# Altium integrated library WE-LHMI (rev22a).IntLib: 164 symbols (part 4 of 4)
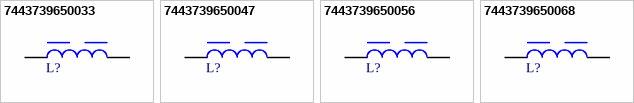
[diagram p7: symbols 7443739650033 to 7443739650068]

## 7443739650068
designator L?, comment 0.68µH, 35.6A  (value not drawn)
WE-LHMI SMT Power Inductor, size 1365, 0.68µH, 35.6A, 1.5mΩ; Manufacturer Part Number: 7443739650068; Manufacturer: Wurth Elektronik; Case/Size Code: 1365; DC Resistance: 1.2mΩ; Saturation Current @10%: 35.7A; Saturation Current @30%: 67.4A; Self Resonant Frequency: 51.1MHz; ComponentLink1Description: Website Link; ComponentLink1URL: https://www.we-online.com/redexpert/article/7443739650068?ad; ComponentLink2Description: Datasheet Link; ComponentLink2URL: https://www.we-online.com/redexpert/spec/7443739650068?ad; Category: Shielded Power Inductors; Match Code: WE-LHMI; Mount: Surface Mount; Operating Temperature Max: 125°C; Operating Temperature Min: -40°C; Packaging: Tape and Reel; Length: 12.5mm; Width: 12.5mm; Height: 6.2mm; DC Resistance Max: 1.5mΩ; Inductance: 0.68µH; Performance Rated Current: 35.6A
footprint WE-LHMI_1365
pins: 1, 2